# Altium schematic symbol library Inductors.SchLib: 18 symbols
Pins are listed as number, name and electrical type; pins without a type are passive.

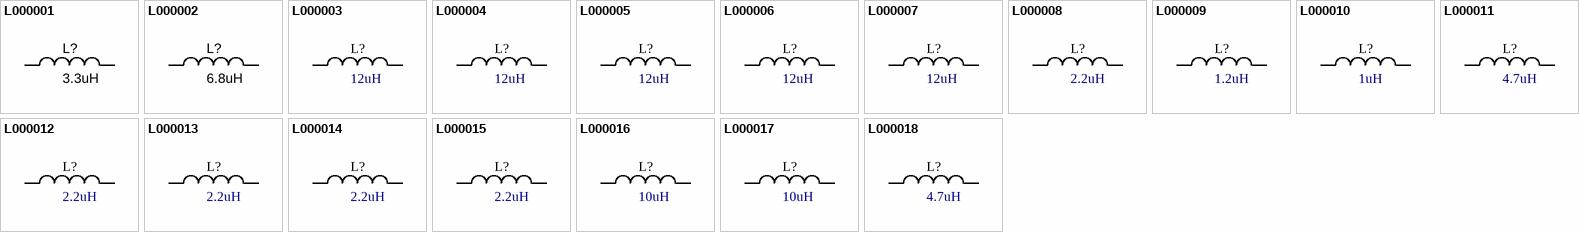
[diagram p0: symbols L000001 to L000018]

## L000001
designator L?, comment 3.3uH
FIXED IND 3.3UH 8A 20.9 MOHM SMD; Manufacturer Product Number: SRP7050TA-3R3M; inductanse: 3.3uH; ComponentLink1Description: DigiKey; ComponentLink1URL: https://www.digikey.com/en/products/detail/bourns-inc/SRP7050TA-3R3M/5429687; DigiKey Part Number: SRP7050TA-3R3MCT-ND
pins: 1, 2

## L000002
designator L?, comment 6.8uH
FIXED IND 6.8UH 8A 23.3 MOHM SMD; Manufacturer Product Number: IHLP4040DZER6R8M01; inductanse: 6.8uH; ComponentLink1Description: DigiKey; ComponentLink1URL: https://www.digikey.com/en/products/detail/vishay-dale/IHLP4040DZER6R8M01/1220696; DigiKey Part Number: 541-1303-1-ND
footprint INDM108103X40N (Molded Inductor, 2-Leads, Body 10.80x10.31mm, IPC Medium Density)
pins: 1, 2

## L000003
designator L?, comment 12uH
FIXED IND 12UH 5.6A 28 MOHM SMD; Manufacturer Product Number: SRR1280-120M; inductance: 12uH; DigiKey Part Number: SRR1280-120MCT-ND; ComponentLink1Description: DigiKey; ComponentLink1URL: https://www.digikey.com/en/products/detail/bourns-inc/SRR1280-120M/1969993
footprint INDM125125X75N (Molded Inductor, 2-Leads, Body 12.50x12.50mm, IPC Medium Density)
pins: 1, 2

## L000004
designator L?, comment 12uH
FIXED IND 12UH 4.8A 25 MOHM SMD; Manufacturer Product Number: SRR1208-120ML; ComponentLink1Description: DigiKey; ComponentLink1URL: https://www.digikey.com/en/products/detail/bourns-inc/SRR1208-120ML/2562317; inductance: 12uH; DigiKey Part Number: SRR1208-120MLCT-ND
footprint INDM127127X85N (Molded Inductor, 2-Leads, Body 12.70x12.70mm, IPC Medium Density)
pins: 1, 2

## L000005
designator L?, comment 12uH
FIXED IND 12UH 6.3A 22 MOHM SMD; Manufacturer Product Number: SRR1210-120M; inductance: 12uH; DigiKey Part Number: SRR1210-120MCT-ND; ComponentLink1Description: DigiKey; ComponentLink1URL: https://www.digikey.com/en/products/detail/bourns-inc/SRR1210-120M/2562342
footprint INDM120120X100N (Molded Inductor, 2-Leads, Body 12.00x12.00mm, IPC Medium Density)
pins: 1, 2

## L000006
designator L?, comment 12uH
FIXED IND 12UH 6.3A 22 MOHM SMD; Manufacturer Product Number: SRR1210A-120M; inductance: 12uH; DigiKey Part Number: SRR1210A-120MCT-ND; ComponentLink1Description: DigiKey; ComponentLink1URL: https://www.digikey.com/en/products/detail/bourns-inc/SRR1210A-120M/5030985
footprint INDM120120X100N (Molded Inductor, 2-Leads, Body 12.00x12.00mm, IPC Medium Density)
pins: 1, 2

## L000007
designator L?, comment 12uH
FIXED IND 12UH 5.9A 24 MOHM SMD; Manufacturer Product Number: 744770112; inductance: 12uH; DigiKey Part Number: 732-1224-1-ND; ComponentLink1Description: DigiKey; ComponentLink1URL: https://www.digikey.com/en/products/detail/w%C3%BCrth-elektronik/744770112/1638629
footprint INDM120120X80N (Molded Inductor, 2-Leads, Body 12.00x12.00mm, IPC Medium Density)
pins: 1, 2

## L000008
designator L?, comment 2.2uH
FIXED IND 2.2UH 4A 61 MOHM SMD; Manufacturer Product Number: SRP4020TA-2R2M; inductance: 2.2uH; DigiKey Part Number: SRP4020TA-2R2MCT-ND; ComponentLink1Description: DigiKey; ComponentLink1URL: https://www.digikey.com/en/products/detail/bourns-inc/SRP4020TA-2R2M/4901004?s=N4IgTCBcDaIMoCUAKAWADGNAVAggWjATAFkQBdAXyA
footprint INDM4441X20N (Molded Inductor, 2-Leads, Body 4.45x4.06mm, IPC Medium Density)
pins: 1, 2

## L000009
designator L?, comment 1.2uH
FIXED IND 1.2UH 14A 7.5 MOHM SMD; Manufacturer Product Number: SRP7050TA-1R2M; inductance: 1.2uH; DigiKey Part Number: SRP7050TA-1R2MCT-ND; ComponentLink1Description: DigiKey; ComponentLink1URL: https://www.digikey.com/en/products/detail/bourns-inc/SRP7050TA-1R2M/5429682?s=N4IgTCBcDaIMoCUAKB2ADAVjQFQIIFoBGBMAWRAF0BfIA
footprint INDP7364X50N (Precision Wire Wound Inductor, 2-Leads, Body 7.30x6.45mm, IPC Medium Density)
pins: 1, 2

## L000010
designator L?, comment 1uH
FIXED IND 1UH 12.2A 7.6 MOHM SMD; Manufacturer Product Number: SRP5030CA-1R0M; inductance: 1uH; DigiKey Part Number: SRP5030CA-1R0MCT-ND; ComponentLink1Description: DigiKey; ComponentLink1URL: https://www.digikey.com/en/products/detail/bourns-inc/SRP5030CA-1R0M/9351021
footprint INDP5553X31N (Precision Wire Wound Inductor, 2-Leads, Body 5.50x5.30mm, IPC Medium Density)
pins: 1, 2

## L000011
designator L?, comment 4.7uH
FIXED IND 4.7UH 5.5A 40 MOHM SMD; Manufacturer Product Number: IHLM2525CZER4R7M01; inductance: 4.7uH; DigiKey Part Number: 541-2565-1-ND; ComponentLink1Description: DigiKey; ComponentLink1URL: https://www.digikey.com/en/products/detail/vishay-dale/IHLM2525CZER4R7M01/2574292
footprint INDP6965X30N (Precision Wire Wound Inductor, 2-Leads, Body 6.86x6.47mm, IPC Medium Density)
pins: 1, 2

## L000012
designator L?, comment 2.2uH
FIXED IND 2.2UH 4.2A 50.1MOHM SM; Manufacturer Product Number: IHLP2020BZER2R2M01; inductance: 2.2uH; DigiKey Part Number: 541-1088-1-ND; ComponentLink1Description: DigiKey; ComponentLink1URL: https://www.digikey.com/en/products/detail/vishay-dale/IHLP2020BZER2R2M01/1869311?s=N4IgTCBcDaIJIAkAyAFMAGDAhAWgUQCUwiBZdARhAF0BfIA
footprint INDP_518X518
pins: 1, 2

## L000013
designator L?, comment 2.2uH
FIXED IND 2.2UH 12A 9 MOHM SMD; Manufacturer Product Number: IHLP4040DZER2R2M01; inductance: 2.2uH; DigiKey Part Number: 541-1299-1-ND; ComponentLink1Description: DigiKey; ComponentLink1URL: https://www.digikey.com/en/products/detail/vishay-dale/IHLP4040DZER2R2M01/1220692; case: 4040
footprint INDP2523X23N_4040 (0.425" L x 0.400" W (10.80mm x 10.16mm) SMT package)
pins: 1, 2

## L000014
designator L?, comment 2.2uH
FIXED IND 2.2UH 11.5A 12.5 MOHM; Manufacturer Product Number: IHLP4040DZER2R2M01; inductance: 2.2uH; DigiKey Part Number: IHLP3232DZER2R2M51-ND; ComponentLink1Description: DigiKey; ComponentLink1URL: https://www.digikey.com/en/products/detail/vishay-dale/IHLP4040DZER2R2M01/1220692; case: 3232; Mouser Part Number: 70-IHLP3232DZR2R2M51; ComponentLink2Description: Mouser; ComponentLink2URL: https://eu.mouser.com/ProductDetail/Vishay-Dale/IHLP3232DZER2R2M51?qs=tDDpbAIEejp1GdyaFOGUGw%3D%3D
footprint IHLP-3232DZ-51 (Precision Wire Wound Inductor, 2-Leads, Body 8.64x8.81mm, IPC Medium Density)
pins: 1, 2

## L000015
designator L?, comment 2.2uH
FIXED IND 2.2UH 11.5A 12.5 MOHM; Manufacturer Product Number: IHLP3232DZER2R2M5A; inductance: 2.2uH; DigiKey Part Number: 541-IHLP3232DZER2R2M5ACT-ND; ComponentLink1Description: DigiKey; ComponentLink1URL: https://www.digikey.com/en/products/detail/vishay-dale/IHLP3232DZER2R2M5A/4070222; case: 3232; Mouser Part Number: 70-IHLP3232DZR2R2M5A; ComponentLink2Description: Mouser; ComponentLink2URL: https://eu.mouser.com/ProductDetail/Vishay-Dale/IHLP3232DZER2R2M5A?qs=tDDpbAIEejr3%252BeiaEh99%252Bg%3D%3D
footprint IHLP-3232DZ-51 (Precision Wire Wound Inductor, 2-Leads, Body 8.64x8.81mm, IPC Medium Density)
pins: 1, 2

## L000016
designator L?, comment 10uH
FIXED IND 10UH 11A 15.8 MOHM SMD; Manufacturer Product Number: PA4343.103ANLT; inductance: 10uH; DigiKey Part Number: 553-4029-1-ND; ComponentLink1Description: DigiKey; ComponentLink1URL: https://www.digikey.com/en/products/detail/pulse-electronics/PA4343-103ANLT/7943151?s=N4IgTCBcDaIAoEEAsBmVA6AjABhQgcgDIAqIAugL5A; case: 13.5x12.6; Mouser Part Number: 673-PA4343.103ANLT; ComponentLink2Description: Mouser; ComponentLink2URL: https://eu.mouser.com/ProductDetail/Pulse-Electronics/PA4343.103ANLT?qs=chTDxNqvsym%252BWuIQdh7qfw%3D%3D
footprint INDP135126X65N (Precision Wire Wound Inductor, 2-Leads, Body 13.50x12.60mm, IPC Medium Density)
pins: 1, 2

## L000017
designator L?, comment 10uH
FIXED IND 10UH 10A 16.5MOHM SMD; Manufacturer Product Number: PM4343.103NLT; inductance: 10uH; DigiKey Part Number: 553-PM4343.103NLTCT-ND; ComponentLink1Description: DigiKey; ComponentLink1URL: https://www.digikey.com/en/products/detail/pulse-electronics/PM4343-103NLT/10814923; case: 14x12.8; Mouser Part Number: 673-PM4343.103NLT; ComponentLink2Description: Mouser; ComponentLink2URL: https://eu.mouser.com/ProductDetail/Pulse-Electronics/PM4343.103NLT?qs=l7cgNqFNU1gCNMYYmnIneQ%3D%3D
footprint INDP135126X65N (Precision Wire Wound Inductor, 2-Leads, Body 13.50x12.60mm, IPC Medium Density)
pins: 1, 2

## L000018
designator L?, comment 4.7uH
FIXED IND 4.7UH 13.1A 11.3 MOHM; Manufacturer Product Number: ETQ-P5M4R7YFC; inductance: 4.7uH; DigiKey Part Number: PCD2347CT-ND; ComponentLink1Description: DigiKey; ComponentLink1URL: https://www.digikey.com/en/products/detail/panasonic-electronic-components/ETQ-P5M4R7YFC/2347762?s=N4IgTCBcDaIKIBUCKAFArAWQCwCUDsAmgGIDCIAugL5A; case: 0.421" L x 0.394" W (10.70mm x 10.00mm); Mouser Part Number: 667-ETQP5M4R7YFC; ComponentLink2Description: Mouser; ComponentLink2URL: https://eu.mouser.com/ProductDetail/Panasonic/ETQ-P5M4R7YFC?qs=2jC2PCklCt1heH7z2NfEFg%3D%3D; JLCPCB Part Number: C409638
footprint PCC-M1054M (0.421" L x 0.394" W (10.70mm x 10.00mm))
pins: 1, 2